# EAGLE library part NRF24L01 (library eBay parts)
NRF24L01+ module from eBay NOTE: Untested layout
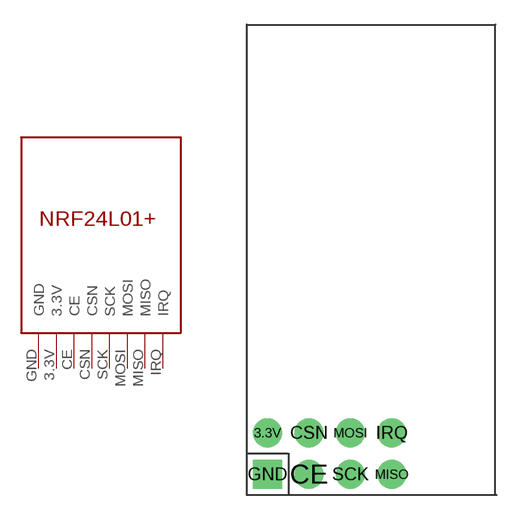
[diagram p2: symbol with the pads of NRF24L01; footprint NRF24L01]

Designator prefix -

## NRF24L01  [NRF24L01]
3.3V  3.3V
CE  CE
CSN  CSN
GND  GND
IRQ  IRQ
MISO  MISO
MOSI  MOSI
SCK  SCK

## Footprint NRF24L01 (pad centres in mm)
Footprint for the NRF24L01+ module from eBay
drill 0.8 pad 1.778: 3.3V 0,2.54; CE 2.54,0; CSN 2.54,2.54; IRQ 7.62,2.54; MISO 7.62,0; MOSI 5.08,2.54; SCK 5.08,0
drill 0.8 pad 1.778 square: GND 0,0